# Altium schematic symbol library LM2700.SchLib: 1 symbol
Pins are listed as number, name and electrical type; pins without a type are passive.

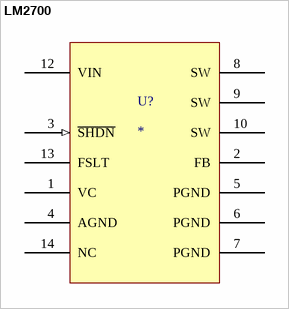
[diagram p0: symbol LM2700]

## LM2700
designator U?
pins: 1 VC, 2 FB, 3 ~{SHDN} (in), 4 AGND (power), 5 PGND, 6 PGND, 7 PGND (power), 8 SW, 9 SW, 10 SW, 12 VIN, 13 FSLT, 14 NC